# Altium schematic symbol library A121-001-T&R.SchLib: 1 symbol
Pins are listed as number, name and electrical type; pins without a type are passive.

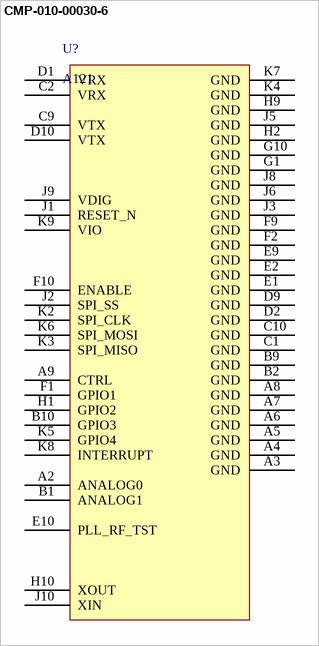
[diagram p0: symbol CMP-010-00030-6]

## CMP-010-00030-6
designator U?, comment A121
Acconeer A121 pulsed coherent 60 GHz radar sensor; Manufacturer: Acconeer AB; Package: fcCSP50; Package Size: 5.2 x 5.5 x 0.88 mm; ComponentLink1Description: Datasheet; Case/Package: BGA; Max Operating Tempereture: 85; Mounting Type: SMD; RoHS Compliant: Yes; Min Operating Temperature: -40°C
footprint BGA50C50P10X10_520X550X90
pins: A2 ANALOG0, A3 GND, A4 GND, A5 GND, A6 GND, A7 GND, A8 GND, A9 CTRL, B1 ANALOG1, B2 GND, B9 GND, B10 GPIO3, C1 GND, C2 VRX, C9 VTX, C10 GND, D1 VRX, D2 GND, D9 GND, D10 VTX, E1 GND, E2 GND, E9 GND, E10 PLL_RF_TST, F1 GPIO1, F2 GND, F9 GND, F10 ENABLE, G1 GND, G10 GND, H1 GPIO2, H2 GND, H9 GND, H10 XOUT, J1 RESET_N, J2 SPI_SS, J3 GND, J5 GND, J6 GND, J8 GND, J9 VDIG, J10 XIN, K2 SPI_CLK, K3 SPI_MISO, K4 GND, K5 GPIO4, K6 SPI_MOSI, K7 GND, K8 INTERRUPT, K9 VIO